# Altium integrated library Capacitor - Aluminium TH.IntLib: 4591 symbols (part 27 of 68)
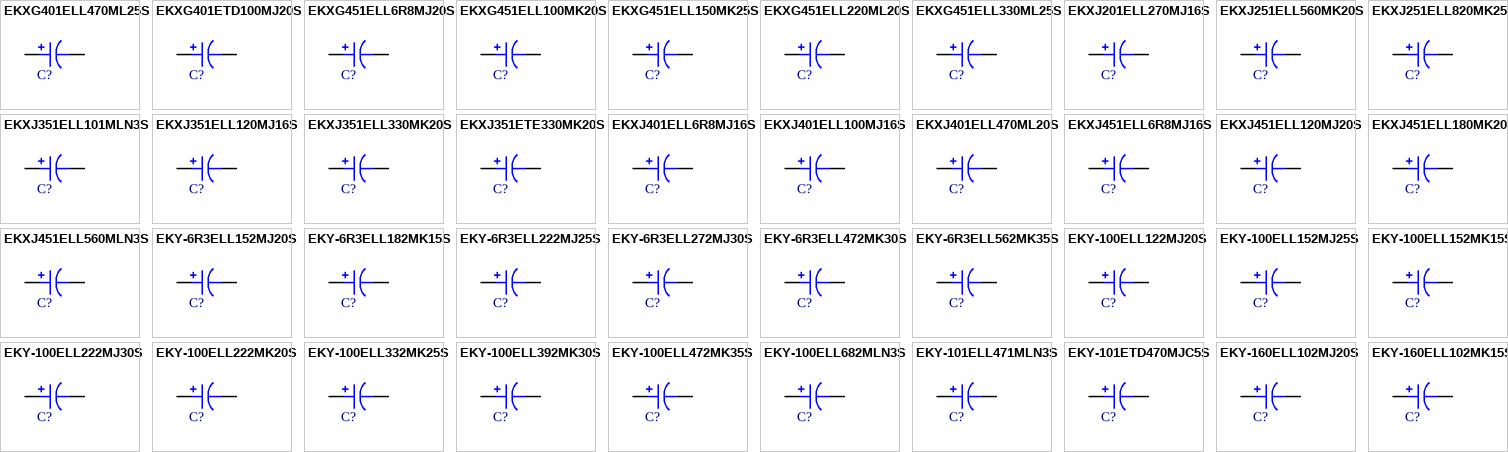
[diagram p140: symbols EKXG401ELL470ML25S to EKY-160ELL102MK15S]

## EKXG401ETD100MJ20S
designator C?, comment 10uF  (value not drawn)
CAP ALUM 10UF 20% 400V RADIAL; Part Number: EKXG401ETD100MJ20S; Manufacturer: United Chemi-Con; TemperatureRange: -40C ~ 105C; Type: Polar; Ripple Current: 140mA @ 120Hz; Value: 10uF; PartId: 25471; Supplier 1: Digi-Key; Supplier Part Number 1: 565-4257-3-ND; ComponentLink1Description: Datasheet; ComponentLink1URL: http://www.chemi-con.co.jp/cgi-bin/CAT_DB/SEARCH/cat_db_al.cgi?e=e&j=p&pdfname=kxg; ComponentLink2Description: Digi-Key Listing; ComponentLink2URL: https://www.digikey.com/product-detail/en/united-chemi-con/EKXG401ETD100MJ20S/565-4257-3-ND/4001214; Tolerance: 20%; Voltage: 400V; Price: 0.2907; Device Package: Radial, Can, 10mm
footprint CAP AL TH D10 L5 H22
pins: 1, 2

## EKXG451ELL6R8MJ20S
designator C?, comment 6.8uF  (value not drawn)
CAP ALUM 6.8UF 20% 450V RADIAL; Part Number: EKXG451ELL6R8MJ20S; Manufacturer: United Chemi-Con; TemperatureRange: -25C ~ 105C; Type: Polar; Ripple Current: 110mA @ 120Hz; Value: 6.8uF; PartId: 25679; Supplier 1: Digi-Key; Supplier Part Number 1: 565-1472-ND; ComponentLink1Description: Datasheet; ComponentLink1URL: http://www.chemi-con.co.jp/cgi-bin/CAT_DB/SEARCH/cat_db_al.cgi?e=e&j=p&pdfname=kxg; ComponentLink2Description: Digi-Key Listing; ComponentLink2URL: https://www.digikey.com/product-detail/en/united-chemi-con/EKXG451ELL6R8MJ20S/565-1472-ND/755988; Tolerance: 20%; Voltage: 450V; Price: 0.8; Device Package: Radial, Can, 10mm
footprint CAP AL TH D10 L5 H22
pins: 1, 2

## EKXG451ELL100MK20S
designator C?, comment 10uF  (value not drawn)
CAP ALUM 10UF 20% 450V RADIAL; Part Number: EKXG451ELL100MK20S; Manufacturer: United Chemi-Con; TemperatureRange: -25C ~ 105C; Type: Polar; Ripple Current: 180mA @ 120Hz; Value: 10uF; PartId: 22939; Supplier 1: Digi-Key; Supplier Part Number 1: 565-1473-ND; ComponentLink1Description: Datasheet; ComponentLink1URL: http://www.chemi-con.co.jp/cgi-bin/CAT_DB/SEARCH/cat_db_al.cgi?e=e&j=p&pdfname=kxg; ComponentLink2Description: Digi-Key Listing; ComponentLink2URL: https://www.digikey.com/product-detail/en/united-chemi-con/EKXG451ELL100MK20S/565-1473-ND/755989; Tolerance: 20%; Voltage: 450V; Price: 0; Device Package: Radial, Can, 12.5mm
footprint CAP AL TH D12.5 L5 H20
pins: 1, 2

## EKXG451ELL150MK25S
designator C?, comment 15uF  (value not drawn)
CAP ALUM 15UF 20% 450V RADIAL; Part Number: EKXG451ELL150MK25S; Manufacturer: United Chemi-Con; TemperatureRange: -25C ~ 105C; Type: Polar; Ripple Current: 240mA @ 120Hz; Value: 15uF; PartId: 23621; Supplier 1: Digi-Key; Supplier Part Number 1: 565-1474-ND; ComponentLink1Description: Datasheet; ComponentLink1URL: http://www.chemi-con.co.jp/cgi-bin/CAT_DB/SEARCH/cat_db_al.cgi?e=e&j=p&pdfname=kxg; ComponentLink2Description: Digi-Key Listing; ComponentLink2URL: https://www.digikey.com/product-detail/en/united-chemi-con/EKXG451ELL150MK25S/565-1474-ND/755990; Tolerance: 20%; Voltage: 450V; Price: 1.45; Device Package: Radial, Can, 12.5mm
footprint CAP AL TH D12.5 L5 H25
pins: 1, 2

## EKXG451ELL220ML20S
designator C?, comment 22uF  (value not drawn)
CAP ALUM 22UF 20% 450V RADIAL; Part Number: EKXG451ELL220ML20S; Manufacturer: United Chemi-Con; TemperatureRange: -25C ~ 105C; Type: Polar; Ripple Current: 290mA @ 120Hz; Value: 22uF; PartId: 26345; Supplier 1: Digi-Key; Supplier Part Number 1: 565-1475-ND; ComponentLink1Description: Datasheet; ComponentLink1URL: http://www.chemi-con.co.jp/cgi-bin/CAT_DB/SEARCH/cat_db_al.cgi?e=e&j=p&pdfname=kxg; ComponentLink2Description: Digi-Key Listing; ComponentLink2URL: https://www.digikey.com/product-detail/en/united-chemi-con/EKXG451ELL220ML20S/565-1475-ND/755991; Tolerance: 20%; Voltage: 450V; Price: 1.75; Device Package: Radial, Can, 16mm
footprint CAP AL TH D16 L7.5 H20
pins: 1, 2

## EKXG451ELL330ML25S
designator C?, comment 33uF  (value not drawn)
CAP ALUM 33UF 20% 450V RADIAL; Part Number: EKXG451ELL330ML25S; Manufacturer: United Chemi-Con; TemperatureRange: -25C ~ 105C; Type: Polar; Ripple Current: 390mA @ 120Hz; Value: 33uF; PartId: 26704; Supplier 1: Digi-Key; Supplier Part Number 1: 565-1476-ND; ComponentLink1Description: Datasheet; ComponentLink1URL: http://www.chemi-con.co.jp/cgi-bin/CAT_DB/SEARCH/cat_db_al.cgi?e=e&j=p&pdfname=kxg; ComponentLink2Description: Digi-Key Listing; ComponentLink2URL: https://www.digikey.com/product-detail/en/united-chemi-con/EKXG451ELL330ML25S/565-1476-ND/755992; Tolerance: 20%; Voltage: 450V; Price: 2.19; Device Package: Radial, Can, 16mm
footprint CAP AL TH D16 L7.5 H26.5
pins: 1, 2

## EKXJ201ELL270MJ16S
designator C?, comment 27uF  (value not drawn)
CAP ALUM 27UF 20% 200V RADIAL; Part Number: EKXJ201ELL270MJ16S; Manufacturer: United Chemi-Con; TemperatureRange: -40C ~ 105C; Type: Polar; Ripple Current: 200mA @ 120Hz; Value: 27uF; PartId: 25395; Supplier 1: Digi-Key; Supplier Part Number 1: 565-4217-ND; ComponentLink1Description: Datasheet; ComponentLink1URL: http://www.chemi-con.co.jp/cgi-bin/CAT_DB/SEARCH/cat_db_al.cgi?e=e&j=p&pdfname=kxj; ComponentLink2Description: Digi-Key Listing; ComponentLink2URL: https://www.digikey.com/product-detail/en/united-chemi-con/EKXJ201ELL270MJ16S/565-4217-ND/4001231; Tolerance: 20%; Voltage: 200V; Price: 0.79; Device Package: Radial, Can, 10mm
footprint CAP AL TH D10 L5 H17.5
pins: 1, 2

## EKXJ251ELL560MK20S
designator C?, comment 56uF  (value not drawn)
CAP ALUM 56UF 20% 250V RADIAL; Part Number: EKXJ251ELL560MK20S; Manufacturer: United Chemi-Con; TemperatureRange: -40C ~ 105C; Type: Polar; Ripple Current: 430mA @ 120Hz; Value: 56uF; PartId: 23042; Supplier 1: Digi-Key; Supplier Part Number 1: 565-3497-ND; ComponentLink1Description: Datasheet; ComponentLink1URL: http://www.chemi-con.co.jp/cgi-bin/CAT_DB/SEARCH/cat_db_al.cgi?e=e&j=p&pdfname=kxj; ComponentLink2Description: Digi-Key Listing; ComponentLink2URL: https://www.digikey.com/product-detail/en/united-chemi-con/EKXJ251ELL560MK20S/565-3497-ND/3529014; Tolerance: 20%; Voltage: 250V; Price: 0; Device Package: Radial, Can, 12.5mm
footprint CAP AL TH D12.5 L5 H21.5
pins: 1, 2

## EKXJ251ELL820MK25S
designator C?, comment 82uF  (value not drawn)
CAP ALUM 82UF 20% 250V RADIAL; Part Number: EKXJ251ELL820MK25S; Manufacturer: United Chemi-Con; TemperatureRange: -40C ~ 105C; Type: Polar; Ripple Current: 565mA @ 120Hz; Value: 82uF; PartId: 23735; Supplier 1: Digi-Key; Supplier Part Number 1: 565-3498-ND; ComponentLink1Description: Datasheet; ComponentLink1URL: http://www.chemi-con.co.jp/cgi-bin/CAT_DB/SEARCH/cat_db_al.cgi?e=e&j=p&pdfname=kxj; ComponentLink2Description: Digi-Key Listing; ComponentLink2URL: https://www.digikey.com/product-detail/en/united-chemi-con/EKXJ251ELL820MK25S/565-3498-ND/3529020; Tolerance: 20%; Voltage: 250V; Price: 1.5; Device Package: Radial, Can, 12.5mm
footprint CAP AL TH D12.5 L5 H26.5
pins: 1, 2

## EKXJ351ELL101MLN3S
designator C?, comment 100uF  (value not drawn)
CAP ALUM 100UF 20% 350V RADIAL; Part Number: EKXJ351ELL101MLN3S; Manufacturer: United Chemi-Con; TemperatureRange: -40C ~ 105C; Type: Polar; Ripple Current: 740mA @ 120Hz; Value: 100uF; PartId: 27262; Supplier 1: Digi-Key; Supplier Part Number 1: 565-3509-ND; ComponentLink1Description: Datasheet; ComponentLink1URL: http://www.chemi-con.co.jp/cgi-bin/CAT_DB/SEARCH/cat_db_al.cgi?e=e&j=p&pdfname=kxj; ComponentLink2Description: Digi-Key Listing; ComponentLink2URL: https://www.digikey.com/product-detail/en/united-chemi-con/EKXJ351ELL101MLN3S/565-3509-ND/3529022; Tolerance: 20%; Voltage: 350V; Price: 2.86; Device Package: Radial, Can, 16mm
footprint CAP AL TH D16 L7.5 H33.5
pins: 1, 2

## EKXJ351ELL120MJ16S
designator C?, comment 12uF  (value not drawn)
CAP ALUM 12UF 20% 350V RADIAL; Part Number: EKXJ351ELL120MJ16S; Manufacturer: United Chemi-Con; TemperatureRange: -40C ~ 105C; Type: Polar; Ripple Current: 135mA @ 120Hz; Value: 12uF; PartId: 25396; Supplier 1: Digi-Key; Supplier Part Number 1: 565-3506-ND; ComponentLink1Description: Datasheet; ComponentLink1URL: http://www.chemi-con.co.jp/cgi-bin/CAT_DB/SEARCH/cat_db_al.cgi?e=e&j=p&pdfname=kxj; ComponentLink2Description: Digi-Key Listing; ComponentLink2URL: https://www.digikey.com/product-detail/en/united-chemi-con/EKXJ351ELL120MJ16S/565-3506-ND/3529024; Tolerance: 20%; Voltage: 350V; Price: 0.79; Device Package: Radial, Can, 10mm
footprint CAP AL TH D10 L5 H17.5
pins: 1, 2

## EKXJ351ELL330MK20S
designator C?, comment 33uF  (value not drawn)
CAP ALUM 33UF 20% 350V RADIAL; Part Number: EKXJ351ELL330MK20S; Manufacturer: United Chemi-Con; TemperatureRange: -40C ~ 105C; Type: Polar; Ripple Current: 330mA @ 120Hz; Value: 33uF; PartId: 23049; Supplier 1: Digi-Key; Supplier Part Number 1: 565-4220-ND; ComponentLink1Description: Datasheet; ComponentLink1URL: http://www.chemi-con.co.jp/cgi-bin/CAT_DB/SEARCH/cat_db_al.cgi?e=e&j=p&pdfname=kxj; ComponentLink2Description: Digi-Key Listing; ComponentLink2URL: https://www.digikey.com/product-detail/en/united-chemi-con/EKXJ351ELL330MK20S/565-4220-ND/4001256; Tolerance: 20%; Voltage: 350V; Price: 0; Device Package: Radial, Can, 12.5mm
footprint CAP AL TH D12.5 L5 H21.5
pins: 1, 2

## EKXJ351ETE330MK20S
designator C?, comment 33uF  (value not drawn)
CAP ALUM 33UF 20% 350V RADIAL; Part Number: EKXJ351ETE330MK20S; Manufacturer: United Chemi-Con; TemperatureRange: -40C ~ 105C; Type: Polar; Ripple Current: 330mA @ 120Hz; Value: 33uF; PartId: 23058; Supplier 1: Digi-Key; Supplier Part Number 1: 565-3345-1-ND; ComponentLink1Description: Datasheet; ComponentLink1URL: http://www.chemi-con.co.jp/cgi-bin/CAT_DB/SEARCH/cat_db_al.cgi?e=e&j=p&pdfname=kxj; ComponentLink2Description: Digi-Key Listing; ComponentLink2URL: https://www.digikey.com/product-detail/en/united-chemi-con/EKXJ351ETE330MK20S/565-3345-1-ND/3504608; Tolerance: 20%; Voltage: 350V; Price: 0; Device Package: Radial, Can, 12.5mm
footprint CAP AL TH D12.5 L5 H21.5
pins: 1, 2

## EKXJ401ELL6R8MJ16S
designator C?, comment 6.8uF  (value not drawn)
CAP ALUM 6.8UF 20% 400V RADIAL; Part Number: EKXJ401ELL6R8MJ16S; Manufacturer: United Chemi-Con; TemperatureRange: -40C ~ 105C; Type: Polar; Value: 6.8uF; PartId: 25392; Supplier 1: Digi-Key; Supplier Part Number 1: 565-3517-ND; ComponentLink1Description: Datasheet; ComponentLink1URL: http://www.chemi-con.co.jp/cgi-bin/CAT_DB/SEARCH/cat_db_al.cgi?e=e&j=p&pdfname=kxj; ComponentLink2Description: Digi-Key Listing; ComponentLink2URL: https://www.digikey.com/product-detail/en/united-chemi-con/EKXJ401ELL6R8MJ16S/565-3517-ND/3529073; Tolerance: 20%; Voltage: 400V; Price: 0.78; Device Package: Radial, Can, 10mm
footprint CAP AL TH D10 L5 H17.5
pins: 1, 2

## EKXJ401ELL100MJ16S
designator C?, comment 10uF  (value not drawn)
CAP ALUM 10UF 20% 400V RADIAL; Part Number: EKXJ401ELL100MJ16S; Manufacturer: United Chemi-Con; TemperatureRange: -40C ~ 105C; Type: Polar; Ripple Current: 125mA @ 120Hz; Value: 10uF; PartId: 25407; Supplier 1: Digi-Key; Supplier Part Number 1: 565-4221-ND; ComponentLink1Description: Datasheet; ComponentLink1URL: http://www.chemi-con.co.jp/cgi-bin/CAT_DB/SEARCH/cat_db_al.cgi?e=e&j=p&pdfname=kxj; ComponentLink2Description: Digi-Key Listing; ComponentLink2URL: https://www.digikey.com/product-detail/en/united-chemi-con/EKXJ401ELL100MJ16S/565-4221-ND/4001263; Tolerance: 20%; Voltage: 400V; Price: 0.83; Device Package: Radial, Can, 10mm
footprint CAP AL TH D10 L5 H17.5
pins: 1, 2

## EKXJ401ELL470ML20S
designator C?, comment 47uF  (value not drawn)
CAP ALUM 47UF 20% 400V RADIAL; Part Number: EKXJ401ELL470ML20S; Manufacturer: United Chemi-Con; TemperatureRange: -40C ~ 105C; Type: Polar; Ripple Current: 435mA @ 120Hz; Value: 47uF; PartId: 26492; Supplier 1: Digi-Key; Supplier Part Number 1: 565-3521-ND; ComponentLink1Description: Datasheet; ComponentLink1URL: http://www.chemi-con.co.jp/cgi-bin/CAT_DB/SEARCH/cat_db_al.cgi?e=e&j=p&pdfname=kxj; ComponentLink2Description: Digi-Key Listing; ComponentLink2URL: https://www.digikey.com/product-detail/en/united-chemi-con/EKXJ401ELL470ML20S/565-3521-ND/3529067; Tolerance: 20%; Voltage: 400V; Price: 1.89; Device Package: Radial, Can, 16mm
footprint CAP AL TH D16 L7.5 H22
pins: 1, 2

## EKXJ451ELL6R8MJ16S
designator C?, comment 6.8uF  (value not drawn)
CAP ALUM 6.8UF 20% 450V RADIAL; Part Number: EKXJ451ELL6R8MJ16S; Manufacturer: United Chemi-Con; TemperatureRange: -25C ~ 105C; Type: Polar; Ripple Current: 105mA @ 120Hz; Value: 6.8uF; PartId: 25410; Supplier 1: Digi-Key; Supplier Part Number 1: 565-4229-ND; ComponentLink1Description: Datasheet; ComponentLink1URL: http://www.chemi-con.co.jp/cgi-bin/CAT_DB/SEARCH/cat_db_al.cgi?e=e&j=p&pdfname=kxj; ComponentLink2Description: Digi-Key Listing; ComponentLink2URL: https://www.digikey.com/product-detail/en/united-chemi-con/EKXJ451ELL6R8MJ16S/565-4229-ND/4001285; Tolerance: 20%; Voltage: 450V; Price: 0.83; Device Package: Radial, Can, 10mm
footprint CAP AL TH D10 L5 H17.5
pins: 1, 2

## EKXJ451ELL120MJ20S
designator C?, comment 12uF  (value not drawn)
CAP ALUM 12UF 20% 450V RADIAL; Part Number: EKXJ451ELL120MJ20S; Manufacturer: United Chemi-Con; TemperatureRange: -25C ~ 105C; Type: Polar; Ripple Current: 150mA @ 120Hz; Value: 12uF; PartId: 25704; Supplier 1: Digi-Key; Supplier Part Number 1: 565-4225-ND; ComponentLink1Description: Datasheet; ComponentLink1URL: http://www.chemi-con.co.jp/cgi-bin/CAT_DB/SEARCH/cat_db_al.cgi?e=e&j=p&pdfname=kxj; ComponentLink2Description: Digi-Key Listing; ComponentLink2URL: https://www.digikey.com/product-detail/en/united-chemi-con/EKXJ451ELL120MJ20S/565-4225-ND/3529113; Tolerance: 20%; Voltage: 450V; Price: 0.91; Device Package: Radial, Can, 10mm
footprint CAP AL TH D10 L5 H22
pins: 1, 2

## EKXJ451ELL180MK20S
designator C?, comment 18uF  (value not drawn)
CAP ALUM 18UF 20% 450V RADIAL; Part Number: EKXJ451ELL180MK20S; Manufacturer: United Chemi-Con; TemperatureRange: -25C ~ 105C; Type: Polar; Ripple Current: 255mA @ 120Hz; Value: 18uF; PartId: 23045; Supplier 1: Digi-Key; Supplier Part Number 1: 565-3528-ND; ComponentLink1Description: Datasheet; ComponentLink1URL: http://www.chemi-con.co.jp/cgi-bin/CAT_DB/SEARCH/cat_db_al.cgi?e=e&j=p&pdfname=kxj; ComponentLink2Description: Digi-Key Listing; ComponentLink2URL: https://www.digikey.com/product-detail/en/united-chemi-con/EKXJ451ELL180MK20S/565-3528-ND/3529116; Tolerance: 20%; Voltage: 450V; Price: 0; Device Package: Radial, Can, 12.5mm
footprint CAP AL TH D12.5 L5 H21.5
pins: 1, 2

## EKXJ451ELL560MLN3S
designator C?, comment 56uF  (value not drawn)
CAP ALUM 56UF 20% 450V RADIAL; Part Number: EKXJ451ELL560MLN3S; Manufacturer: United Chemi-Con; TemperatureRange: -25C ~ 105C; Type: Polar; Ripple Current: 585mA @ 120Hz; Value: 56uF; PartId: 27249; Supplier 1: Digi-Key; Supplier Part Number 1: 565-3538-ND; ComponentLink1Description: Datasheet; ComponentLink1URL: http://www.chemi-con.co.jp/cgi-bin/CAT_DB/SEARCH/cat_db_al.cgi?e=e&j=p&pdfname=kxj; ComponentLink2Description: Digi-Key Listing; ComponentLink2URL: https://www.digikey.com/product-detail/en/united-chemi-con/EKXJ451ELL560MLN3S/565-3538-ND/3529129; Tolerance: 20%; Voltage: 450V; Price: 2.65; Device Package: Radial, Can, 16mm
footprint CAP AL TH D16 L7.5 H33.5
pins: 1, 2

## EKY-6R3ELL152MJ20S
designator C?, comment 1500uF  (value not drawn)
CAP ALUM 1500UF 20% 6.3V RADIAL; Part Number: EKY-6R3ELL152MJ20S; Manufacturer: United Chemi-Con; TemperatureRange: -40C ~ 105C; Type: Polar; Ripple Current: 840mA @ 120Hz; Impedance: 46 mOhm; Value: 1500uF; PartId: 25515; Supplier 1: Digi-Key; Supplier Part Number 1: 565-1489-ND; ComponentLink1Description: Datasheet; ComponentLink1URL: http://www.chemi-con.co.jp/cgi-bin/CAT_DB/SEARCH/cat_db_al.cgi?e=e&j=p&pdfname=ky; ComponentLink2Description: Digi-Key Listing; ComponentLink2URL: https://www.digikey.com/product-detail/en/united-chemi-con/EKY-6R3ELL152MJ20S/565-1489-ND/756005; Tolerance: 20%; Voltage: 6.3V; Price: 0.57; Device Package: Radial, Can, 10mm
footprint CAP AL TH D10 L5 H22
pins: 1, 2

## EKY-6R3ELL182MK15S
designator C?, comment 1800uF  (value not drawn)
CAP ALUM 1800UF 20% 6.3V RADIAL; Part Number: EKY-6R3ELL182MK15S; Manufacturer: United Chemi-Con; TemperatureRange: -40C ~ 105C; Type: Polar; Ripple Current: 870mA @ 120Hz; Impedance: 49 mOhm; Value: 1800uF; PartId: 22711; Supplier 1: Digi-Key; Supplier Part Number 1: 565-1490-ND; ComponentLink1Description: Datasheet; ComponentLink1URL: http://www.chemi-con.co.jp/cgi-bin/CAT_DB/SEARCH/cat_db_al.cgi?e=e&j=p&pdfname=ky; ComponentLink2Description: Digi-Key Listing; ComponentLink2URL: https://www.digikey.com/product-detail/en/united-chemi-con/EKY-6R3ELL182MK15S/565-1490-ND/756006; Tolerance: 20%; Voltage: 6.3V; Price: 0; Device Package: Radial, Can, 12.5mm
footprint CAP AL TH D12.5 L5 H15
pins: 1, 2

## EKY-6R3ELL222MJ25S
designator C?, comment 2200uF  (value not drawn)
CAP ALUM 2200UF 20% 6.3V RADIAL; Part Number: EKY-6R3ELL222MJ25S; Manufacturer: United Chemi-Con; TemperatureRange: -40C ~ 105C; Type: Polar; Ripple Current: 1.2375A @ 120Hz; Impedance: 42 mOhm; Value: 2200uF; PartId: 26081; Supplier 1: Digi-Key; Supplier Part Number 1: 565-1491-ND; ComponentLink1Description: Datasheet; ComponentLink1URL: http://www.chemi-con.co.jp/cgi-bin/CAT_DB/SEARCH/cat_db_al.cgi?e=e&j=p&pdfname=ky; ComponentLink2Description: Digi-Key Listing; ComponentLink2URL: https://www.digikey.com/product-detail/en/united-chemi-con/EKY-6R3ELL222MJ25S/565-1491-ND/756007; Tolerance: 20%; Voltage: 6.3V; Price: 0.71; Device Package: Radial, Can, 10mm
footprint CAP AL TH D10 L5 H30
pins: 1, 2

## EKY-6R3ELL272MJ30S
designator C?, comment 2700uF  (value not drawn)
CAP ALUM 2700UF 20% 6.3V RADIAL; Part Number: EKY-6R3ELL272MJ30S; Manufacturer: United Chemi-Con; TemperatureRange: -40C ~ 105C; Type: Polar; Ripple Current: 1.4325A @ 120Hz; Impedance: 31 mOhm; Value: 2700uF; PartId: 26052; Supplier 1: Digi-Key; Supplier Part Number 1: 565-1492-ND; ComponentLink1Description: Datasheet; ComponentLink1URL: http://www.chemi-con.co.jp/cgi-bin/CAT_DB/SEARCH/cat_db_al.cgi?e=e&j=p&pdfname=ky; ComponentLink2Description: Digi-Key Listing; ComponentLink2URL: https://www.digikey.com/product-detail/en/united-chemi-con/EKY-6R3ELL272MJ30S/565-1492-ND/756008; Tolerance: 20%; Voltage: 6.3V; Price: 0.63; Device Package: Radial, Can, 10mm
footprint CAP AL TH D10 L5 H30
pins: 1, 2

## EKY-6R3ELL472MK30S
designator C?, comment 4700uF  (value not drawn)
CAP ALUM 4700UF 20% 6.3V RADIAL; Part Number: EKY-6R3ELL472MK30S; Manufacturer: United Chemi-Con; TemperatureRange: -40C ~ 105C; Type: Polar; Ripple Current: 2.2525A @ 120Hz; Impedance: 24 mOhm; Value: 4700uF; PartId: 24213; Supplier 1: Digi-Key; Supplier Part Number 1: 565-1495-ND; ComponentLink1Description: Datasheet; ComponentLink1URL: http://www.chemi-con.co.jp/cgi-bin/CAT_DB/SEARCH/cat_db_al.cgi?e=e&j=p&pdfname=ky; ComponentLink2Description: Digi-Key Listing; ComponentLink2URL: https://www.digikey.com/product-detail/en/united-chemi-con/EKY-6R3ELL472MK30S/565-1495-ND/756011; Tolerance: 20%; Voltage: 6.3V; Price: 0.95; Device Package: Radial, Can, 12.5mm
footprint CAP AL TH D12.5 L5 H35.5
pins: 1, 2

## EKY-6R3ELL562MK35S
designator C?, comment 5600uF  (value not drawn)
CAP ALUM 5600UF 20% 6.3V RADIAL; Part Number: EKY-6R3ELL562MK35S; Manufacturer: United Chemi-Con; TemperatureRange: -40C ~ 105C; Type: Polar; Ripple Current: 2.448A @ 120Hz; Impedance: 20 mOhm; Value: 5600uF; PartId: 24256; Supplier 1: Digi-Key; Supplier Part Number 1: 565-1496-ND; ComponentLink1Description: Datasheet; ComponentLink1URL: http://www.chemi-con.co.jp/cgi-bin/CAT_DB/SEARCH/cat_db_al.cgi?e=e&j=p&pdfname=ky; ComponentLink2Description: Digi-Key Listing; ComponentLink2URL: https://www.digikey.com/product-detail/en/united-chemi-con/EKY-6R3ELL562MK35S/565-1496-ND/756012; Tolerance: 20%; Voltage: 6.3V; Price: 1.03; Device Package: Radial, Can, 12.5mm
footprint CAP AL TH D12.5 L5 H35.5
pins: 1, 2

## EKY-100ELL122MJ20S
designator C?, comment 1200uF  (value not drawn)
CAP ALUM 1200UF 20% 10V RADIAL; Part Number: EKY-100ELL122MJ20S; Manufacturer: United Chemi-Con; TemperatureRange: -40C ~ 105C; Type: Polar; Ripple Current: 840mA @ 120Hz; Impedance: 46 mOhm; Value: 1200uF; PartId: 25514; Supplier 1: Digi-Key; Supplier Part Number 1: 565-1506-ND; ComponentLink1Description: Datasheet; ComponentLink1URL: http://www.chemi-con.co.jp/cgi-bin/CAT_DB/SEARCH/cat_db_al.cgi?e=e&j=p&pdfname=ky; ComponentLink2Description: Digi-Key Listing; ComponentLink2URL: https://www.digikey.com/product-detail/en/united-chemi-con/EKY-100ELL122MJ20S/565-1506-ND/756022; Tolerance: 20%; Voltage: 10V; Price: 0.56; Device Package: Radial, Can, 10mm
footprint CAP AL TH D10 L5 H22
pins: 1, 2

## EKY-100ELL152MJ25S
designator C?, comment 1500uF  (value not drawn)
CAP ALUM 1500UF 20% 10V RADIAL; Part Number: EKY-100ELL152MJ25S; Manufacturer: United Chemi-Con; TemperatureRange: -40C ~ 105C; Type: Polar; Ripple Current: 990mA @ 120Hz; Impedance: 42 mOhm; Value: 1500uF; PartId: 26070; Supplier 1: Digi-Key; Supplier Part Number 1: 565-1507-ND; ComponentLink1Description: Datasheet; ComponentLink1URL: http://www.chemi-con.co.jp/cgi-bin/CAT_DB/SEARCH/cat_db_al.cgi?e=e&j=p&pdfname=ky; ComponentLink2Description: Digi-Key Listing; ComponentLink2URL: https://www.digikey.com/product-detail/en/united-chemi-con/EKY-100ELL152MJ25S/565-1507-ND/756023; Tolerance: 20%; Voltage: 10V; Price: 0.7; Device Package: Radial, Can, 10mm
footprint CAP AL TH D10 L5 H30
pins: 1, 2

## EKY-100ELL152MK15S
designator C?, comment 1500uF  (value not drawn)
CAP ALUM 1500UF 20% 10V RADIAL; Part Number: EKY-100ELL152MK15S; Manufacturer: United Chemi-Con; TemperatureRange: -40C ~ 105C; Type: Polar; Ripple Current: 870mA @ 120Hz; Impedance: 49 mOhm; Value: 1500uF; PartId: 22713; Supplier 1: Digi-Key; Supplier Part Number 1: 565-1508-ND; ComponentLink1Description: Datasheet; ComponentLink1URL: http://www.chemi-con.co.jp/cgi-bin/CAT_DB/SEARCH/cat_db_al.cgi?e=e&j=p&pdfname=ky; ComponentLink2Description: Digi-Key Listing; ComponentLink2URL: https://www.digikey.com/product-detail/en/united-chemi-con/EKY-100ELL152MK15S/565-1508-ND/756024; Tolerance: 20%; Voltage: 10V; Price: 0; Device Package: Radial, Can, 12.5mm
footprint CAP AL TH D12.5 L5 H15
pins: 1, 2

## EKY-100ELL222MJ30S
designator C?, comment 2200uF  (value not drawn)
CAP ALUM 2200UF 20% 10V RADIAL; Part Number: EKY-100ELL222MJ30S; Manufacturer: United Chemi-Con; TemperatureRange: -40C ~ 105C; Type: Polar; Ripple Current: 1.4325A @ 120Hz; Impedance: 31 mOhm; Value: 2200uF; PartId: 26050; Supplier 1: Digi-Key; Supplier Part Number 1: 565-1509-ND; ComponentLink1Description: Datasheet; ComponentLink1URL: http://www.chemi-con.co.jp/cgi-bin/CAT_DB/SEARCH/cat_db_al.cgi?e=e&j=p&pdfname=ky; ComponentLink2Description: Digi-Key Listing; ComponentLink2URL: https://www.digikey.com/product-detail/en/united-chemi-con/EKY-100ELL222MJ30S/565-1509-ND/756025; Tolerance: 20%; Voltage: 10V; Price: 0.63; Device Package: Radial, Can, 10mm
footprint CAP AL TH D10 L5 H30
pins: 1, 2

## EKY-100ELL222MK20S
designator C?, comment 2200uF  (value not drawn)
CAP ALUM 2200UF 20% 10V RADIAL; Part Number: EKY-100ELL222MK20S; Manufacturer: United Chemi-Con; TemperatureRange: -40C ~ 105C; Type: Polar; Ripple Current: 1.425A @ 120Hz; Impedance: 35 mOhm; Value: 2200uF; PartId: 22884; Supplier 1: Digi-Key; Supplier Part Number 1: 565-1510-ND; ComponentLink1Description: Datasheet; ComponentLink1URL: http://www.chemi-con.co.jp/cgi-bin/CAT_DB/SEARCH/cat_db_al.cgi?e=e&j=p&pdfname=ky; ComponentLink2Description: Digi-Key Listing; ComponentLink2URL: https://www.digikey.com/product-detail/en/united-chemi-con/EKY-100ELL222MK20S/565-1510-ND/756026; Tolerance: 20%; Voltage: 10V; Price: 0; Device Package: Radial, Can, 12.5mm
footprint CAP AL TH D12.5 L5 H20
pins: 1, 2

## EKY-100ELL332MK25S
designator C?, comment 3300uF  (value not drawn)
CAP ALUM 3300UF 20% 10V RADIAL; Part Number: EKY-100ELL332MK25S; Manufacturer: United Chemi-Con; TemperatureRange: -40C ~ 105C; Type: Polar; Ripple Current: 1.6725A @ 120Hz; Impedance: 27 mOhm; Value: 3300uF; PartId: 23558; Supplier 1: Digi-Key; Supplier Part Number 1: 565-1512-ND; ComponentLink1Description: Datasheet; ComponentLink1URL: http://www.chemi-con.co.jp/cgi-bin/CAT_DB/SEARCH/cat_db_al.cgi?e=e&j=p&pdfname=ky; ComponentLink2Description: Digi-Key Listing; ComponentLink2URL: https://www.digikey.com/product-detail/en/united-chemi-con/EKY-100ELL332MK25S/565-1512-ND/756028; Tolerance: 20%; Voltage: 10V; Price: 0.87; Device Package: Radial, Can, 12.5mm
footprint CAP AL TH D12.5 L5 H25
pins: 1, 2

## EKY-100ELL392MK30S
designator C?, comment 3900uF  (value not drawn)
CAP ALUM 3900UF 20% 10V RADIAL; Part Number: EKY-100ELL392MK30S; Manufacturer: United Chemi-Con; TemperatureRange: -40C ~ 105C; Type: Polar; Ripple Current: 1.9875A @ 120Hz; Impedance: 24 mOhm; Value: 3900uF; PartId: 24208; Supplier 1: Digi-Key; Supplier Part Number 1: 565-1513-ND; ComponentLink1Description: Datasheet; ComponentLink1URL: http://www.chemi-con.co.jp/cgi-bin/CAT_DB/SEARCH/cat_db_al.cgi?e=e&j=p&pdfname=ky; ComponentLink2Description: Digi-Key Listing; ComponentLink2URL: https://www.digikey.com/product-detail/en/united-chemi-con/EKY-100ELL392MK30S/565-1513-ND/756029; Tolerance: 20%; Voltage: 10V; Price: 0.92; Device Package: Radial, Can, 12.5mm
footprint CAP AL TH D12.5 L5 H35.5
pins: 1, 2

## EKY-100ELL472MK35S
designator C?, comment 4700uF  (value not drawn)
CAP ALUM 4700UF 20% 10V RADIAL; Part Number: EKY-100ELL472MK35S; Manufacturer: United Chemi-Con; TemperatureRange: -40C ~ 105C; Type: Polar; Ripple Current: 2.448A @ 120Hz; Impedance: 20 mOhm; Value: 4700uF; PartId: 24261; Supplier 1: Digi-Key; Supplier Part Number 1: 565-1515-ND; ComponentLink1Description: Datasheet; ComponentLink1URL: http://www.chemi-con.co.jp/cgi-bin/CAT_DB/SEARCH/cat_db_al.cgi?e=e&j=p&pdfname=ky; ComponentLink2Description: Digi-Key Listing; ComponentLink2URL: https://www.digikey.com/product-detail/en/united-chemi-con/EKY-100ELL472MK35S/565-1515-ND/756031; Tolerance: 20%; Voltage: 10V; Price: 1.04; Device Package: Radial, Can, 12.5mm
footprint CAP AL TH D12.5 L5 H35.5
pins: 1, 2

## EKY-100ELL682MLN3S
designator C?, comment 6800uF  (value not drawn)
CAP ALUM 6800UF 20% 10V RADIAL; Part Number: EKY-100ELL682MLN3S; Manufacturer: United Chemi-Con; TemperatureRange: -40C ~ 105C; Type: Polar; Ripple Current: 2.9325A @ 120Hz; Impedance: 17 mOhm; Value: 6800uF; PartId: 27008; Supplier 1: Digi-Key; Supplier Part Number 1: 565-1518-ND; ComponentLink1Description: Datasheet; ComponentLink1URL: http://www.chemi-con.co.jp/cgi-bin/CAT_DB/SEARCH/cat_db_al.cgi?e=e&j=p&pdfname=ky; ComponentLink2Description: Digi-Key Listing; ComponentLink2URL: https://www.digikey.com/product-detail/en/united-chemi-con/EKY-100ELL682MLN3S/565-1518-ND/756034; Tolerance: 20%; Voltage: 10V; Price: 1.4; Device Package: Radial, Can, 16mm
footprint CAP AL TH D16 L7.5 H33.5
pins: 1, 2

## EKY-101ELL471MLN3S
designator C?, comment 470uF  (value not drawn)
CAP ALUM 470UF 20% 100V RADIAL; Part Number: EKY-101ELL471MLN3S; Manufacturer: United Chemi-Con; TemperatureRange: -40C ~ 105C; Type: Polar; Ripple Current: 925mA @ 120Hz; Impedance: 32 mOhm; Value: 470uF; PartId: 27072; Supplier 1: Digi-Key; Supplier Part Number 1: 565-4231-ND; ComponentLink1Description: Datasheet; ComponentLink1URL: http://www.chemi-con.co.jp/cgi-bin/CAT_DB/SEARCH/cat_db_al.cgi?e=e&j=p&pdfname=ky; ComponentLink2Description: Digi-Key Listing; ComponentLink2URL: https://www.digikey.com/product-detail/en/united-chemi-con/EKY-101ELL471MLN3S/565-4231-ND/4001310; Tolerance: 20%; Voltage: 100V; Price: 1.64; Device Package: Radial, Can, 16mm
footprint CAP AL TH D16 L7.5 H33.5
pins: 1, 2

## EKY-101ETD470MJC5S
designator C?, comment 47uF  (value not drawn)
CAP ALUM 47UF 20% 100V RADIAL; Part Number: EKY-101ETD470MJC5S; Manufacturer: United Chemi-Con; TemperatureRange: -40C ~ 105C; Type: Polar; Ripple Current: 192mA @ 120Hz; Impedance: 170 mOhm; Value: 47uF; PartId: 24543; Supplier 1: Digi-Key; Supplier Part Number 1: 565-4258-3-ND; ComponentLink1Description: Datasheet; ComponentLink1URL: http://www.chemi-con.co.jp/cgi-bin/CAT_DB/SEARCH/cat_db_al.cgi?e=e&j=p&pdfname=ky; ComponentLink2Description: Digi-Key Listing; ComponentLink2URL: https://www.digikey.com/product-detail/en/united-chemi-con/EKY-101ETD470MJC5S/565-4258-3-ND/4001321; Tolerance: 20%; Voltage: 100V; Price: 0.1476; Device Package: Radial, Can, 10mm
footprint CAP AL TH D10 L5 H14.5
pins: 1, 2

## EKY-160ELL102MJ20S
designator C?, comment 1000uF  (value not drawn)
CAP ALUM 1000UF 20% 16V RADIAL; Part Number: EKY-160ELL102MJ20S; Manufacturer: United Chemi-Con; TemperatureRange: -40C ~ 105C; Type: Polar; Ripple Current: 840mA @ 120Hz; Impedance: 46 mOhm; Value: 1000uF; PartId: 25519; Supplier 1: Digi-Key; Supplier Part Number 1: 565-1527-ND; ComponentLink1Description: Datasheet; ComponentLink1URL: http://www.chemi-con.co.jp/cgi-bin/CAT_DB/SEARCH/cat_db_al.cgi?e=e&j=p&pdfname=ky; ComponentLink2Description: Digi-Key Listing; ComponentLink2URL: https://www.digikey.com/product-detail/en/united-chemi-con/EKY-160ELL102MJ20S/565-1527-ND/756043; Tolerance: 20%; Voltage: 16V; Price: 0.58; Device Package: Radial, Can, 10mm
footprint CAP AL TH D10 L5 H22
pins: 1, 2

## EKY-160ELL102MK15S
designator C?, comment 1000uF  (value not drawn)
CAP ALUM 1000UF 20% 16V RADIAL; Part Number: EKY-160ELL102MK15S; Manufacturer: United Chemi-Con; TemperatureRange: -40C ~ 105C; Type: Polar; Ripple Current: 870mA @ 120Hz; Impedance: 49 mOhm; Value: 1000uF; PartId: 22737; Supplier 1: Digi-Key; Supplier Part Number 1: 565-1528-ND; ComponentLink1Description: Datasheet; ComponentLink1URL: http://www.chemi-con.co.jp/cgi-bin/CAT_DB/SEARCH/cat_db_al.cgi?e=e&j=p&pdfname=ky; ComponentLink2Description: Digi-Key Listing; ComponentLink2URL: https://www.digikey.com/product-detail/en/united-chemi-con/EKY-160ELL102MK15S/565-1528-ND/756044; Tolerance: 20%; Voltage: 16V; Price: 0; Device Package: Radial, Can, 12.5mm
footprint CAP AL TH D12.5 L5 H16.5
pins: 1, 2

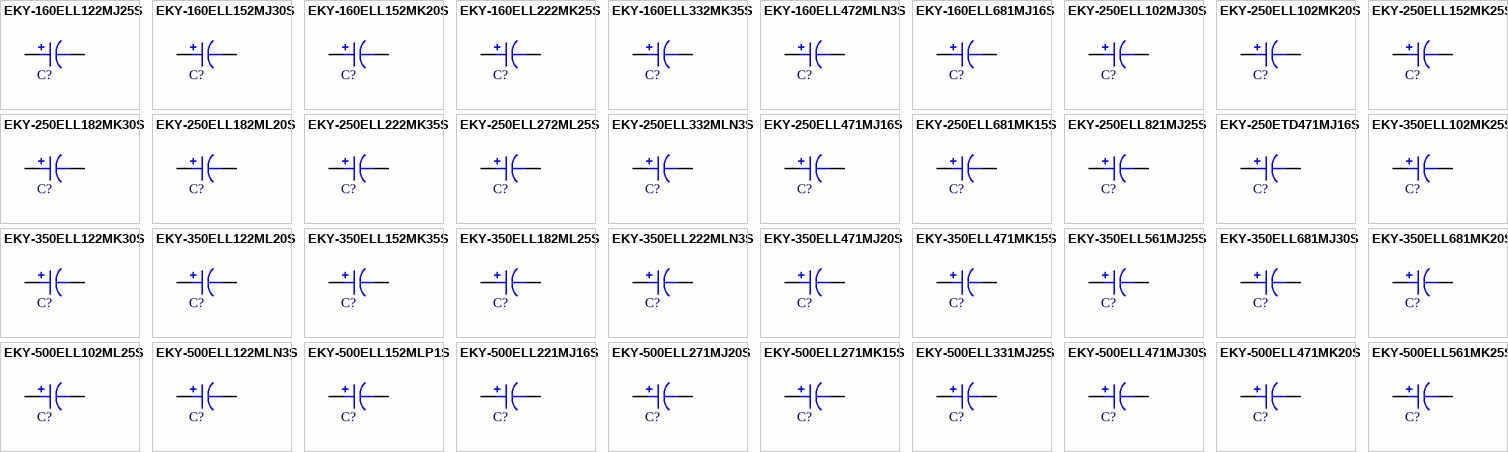
[diagram p44: symbols EKY-160ELL122MJ25S to EKY-500ELL561MK25S]

## EKY-160ELL122MJ25S
designator C?, comment 1200uF  (value not drawn)
CAP ALUM 1200UF 20% 16V RADIAL; Part Number: EKY-160ELL122MJ25S; Manufacturer: United Chemi-Con; TemperatureRange: -40C ~ 105C; Type: Polar; Ripple Current: 990mA @ 120Hz; Impedance: 42 mOhm; Value: 1200uF; PartId: 26079; Supplier 1: Digi-Key; Supplier Part Number 1: 565-1529-ND; ComponentLink1Description: Datasheet; ComponentLink1URL: http://www.chemi-con.co.jp/cgi-bin/CAT_DB/SEARCH/cat_db_al.cgi?e=e&j=p&pdfname=ky; ComponentLink2Description: Digi-Key Listing; ComponentLink2URL: https://www.digikey.com/product-detail/en/united-chemi-con/EKY-160ELL122MJ25S/565-1529-ND/756045; Tolerance: 20%; Voltage: 16V; Price: 0.71; Device Package: Radial, Can, 10mm
footprint CAP AL TH D10 L5 H30
pins: 1, 2

## EKY-160ELL152MJ30S
designator C?, comment 1500uF  (value not drawn)
CAP ALUM 1500UF 20% 16V RADIAL; Part Number: EKY-160ELL152MJ30S; Manufacturer: United Chemi-Con; TemperatureRange: -40C ~ 105C; Type: Polar; Ripple Current: 1.146A @ 120Hz; Impedance: 31 mOhm; Value: 1500uF; PartId: 26053; Supplier 1: Digi-Key; Supplier Part Number 1: 565-1530-ND; ComponentLink1Description: Datasheet; ComponentLink1URL: http://www.chemi-con.co.jp/cgi-bin/CAT_DB/SEARCH/cat_db_al.cgi?e=e&j=p&pdfname=ky; ComponentLink2Description: Digi-Key Listing; ComponentLink2URL: https://www.digikey.com/product-detail/en/united-chemi-con/EKY-160ELL152MJ30S/565-1530-ND/756046; Tolerance: 20%; Voltage: 16V; Price: 0.64; Device Package: Radial, Can, 10mm
footprint CAP AL TH D10 L5 H30
pins: 1, 2

## EKY-160ELL152MK20S
designator C?, comment 1500uF  (value not drawn)
CAP ALUM 1500UF 20% 16V RADIAL; Part Number: EKY-160ELL152MK20S; Manufacturer: United Chemi-Con; TemperatureRange: -40C ~ 105C; Type: Polar; Ripple Current: 1.14A @ 120Hz; Impedance: 35 mOhm; Value: 1500uF; PartId: 22896; Supplier 1: Digi-Key; Supplier Part Number 1: 565-1531-ND; ComponentLink1Description: Datasheet; ComponentLink1URL: http://www.chemi-con.co.jp/cgi-bin/CAT_DB/SEARCH/cat_db_al.cgi?e=e&j=p&pdfname=ky; ComponentLink2Description: Digi-Key Listing; ComponentLink2URL: https://www.digikey.com/product-detail/en/united-chemi-con/EKY-160ELL152MK20S/565-1531-ND/756047; Tolerance: 20%; Voltage: 16V; Price: 0; Device Package: Radial, Can, 12.5mm
footprint CAP AL TH D12.5 L5 H20
pins: 1, 2

## EKY-160ELL222MK25S
designator C?, comment 2200uF  (value not drawn)
CAP ALUM 2200UF 20% 16V RADIAL; Part Number: EKY-160ELL222MK25S; Manufacturer: United Chemi-Con; TemperatureRange: -40C ~ 105C; Type: Polar; Ripple Current: 1.6725A @ 120Hz; Impedance: 27 mOhm; Value: 2200uF; PartId: 23549; Supplier 1: Digi-Key; Supplier Part Number 1: 565-1532-ND; ComponentLink1Description: Datasheet; ComponentLink1URL: http://www.chemi-con.co.jp/cgi-bin/CAT_DB/SEARCH/cat_db_al.cgi?e=e&j=p&pdfname=ky; ComponentLink2Description: Digi-Key Listing; ComponentLink2URL: https://www.digikey.com/product-detail/en/united-chemi-con/EKY-160ELL222MK25S/565-1532-ND/756048; Tolerance: 20%; Voltage: 16V; Price: 0.85; Device Package: Radial, Can, 12.5mm
footprint CAP AL TH D12.5 L5 H25
pins: 1, 2

## EKY-160ELL332MK35S
designator C?, comment 3300uF  (value not drawn)
CAP ALUM 3300UF 20% 16V RADIAL; Part Number: EKY-160ELL332MK35S; Manufacturer: United Chemi-Con; TemperatureRange: -40C ~ 105C; Type: Polar; Ripple Current: 2.16A @ 120Hz; Impedance: 20 mOhm; Value: 3300uF; PartId: 24262; Supplier 1: Digi-Key; Supplier Part Number 1: 565-1535-ND; ComponentLink1Description: Datasheet; ComponentLink1URL: http://www.chemi-con.co.jp/cgi-bin/CAT_DB/SEARCH/cat_db_al.cgi?e=e&j=p&pdfname=ky; ComponentLink2Description: Digi-Key Listing; ComponentLink2URL: https://www.digikey.com/product-detail/en/united-chemi-con/EKY-160ELL332MK35S/565-1535-ND/756051; Tolerance: 20%; Voltage: 16V; Price: 1.04; Device Package: Radial, Can, 12.5mm
footprint CAP AL TH D12.5 L5 H35.5
pins: 1, 2

## EKY-160ELL472MLN3S
designator C?, comment 4700uF  (value not drawn)
CAP ALUM 4700UF 20% 16V RADIAL; Part Number: EKY-160ELL472MLN3S; Manufacturer: United Chemi-Con; TemperatureRange: -40C ~ 105C; Type: Polar; Ripple Current: 2.9325A @ 120Hz; Impedance: 17 mOhm; Value: 4700uF; PartId: 27011; Supplier 1: Digi-Key; Supplier Part Number 1: 565-1538-ND; ComponentLink1Description: Datasheet; ComponentLink1URL: http://www.chemi-con.co.jp/cgi-bin/CAT_DB/SEARCH/cat_db_al.cgi?e=e&j=p&pdfname=ky; ComponentLink2Description: Digi-Key Listing; ComponentLink2URL: https://www.digikey.com/product-detail/en/united-chemi-con/EKY-160ELL472MLN3S/565-1538-ND/756054; Tolerance: 20%; Voltage: 16V; Price: 1.41; Device Package: Radial, Can, 16mm
footprint CAP AL TH D16 L7.5 H33.5
pins: 1, 2

## EKY-160ELL681MJ16S
designator C?, comment 680uF  (value not drawn)
CAP ALUM 680UF 20% 16V RADIAL; Part Number: EKY-160ELL681MJ16S; Manufacturer: United Chemi-Con; TemperatureRange: -40C ~ 105C; Type: Polar; Ripple Current: 726mA @ 120Hz; Impedance: 60 mOhm; Value: 680uF; PartId: 25205; Supplier 1: Digi-Key; Supplier Part Number 1: 565-1525-ND; ComponentLink1Description: Datasheet; ComponentLink1URL: http://www.chemi-con.co.jp/cgi-bin/CAT_DB/SEARCH/cat_db_al.cgi?e=e&j=p&pdfname=ky; ComponentLink2Description: Digi-Key Listing; ComponentLink2URL: https://www.digikey.com/product-detail/en/united-chemi-con/EKY-160ELL681MJ16S/565-1525-ND/756041; Tolerance: 20%; Voltage: 16V; Price: 0.51; Device Package: Radial, Can, 10mm
footprint CAP AL TH D10 L5 H17.5
pins: 1, 2

## EKY-250ELL102MJ30S
designator C?, comment 1000uF  (value not drawn)
CAP ALUM 1000UF 20% 25V RADIAL; Part Number: EKY-250ELL102MJ30S; Manufacturer: United Chemi-Con; TemperatureRange: -40C ~ 105C; Type: Polar; Ripple Current: 1.146A @ 120Hz; Impedance: 31 mOhm; Value: 1000uF; PartId: 26051; Supplier 1: Digi-Key; Supplier Part Number 1: 565-1554-ND; ComponentLink1Description: Datasheet; ComponentLink1URL: http://www.chemi-con.co.jp/cgi-bin/CAT_DB/SEARCH/cat_db_al.cgi?e=e&j=p&pdfname=ky; ComponentLink2Description: Digi-Key Listing; ComponentLink2URL: https://www.digikey.com/product-detail/en/united-chemi-con/EKY-250ELL102MJ30S/565-1554-ND/756070; Tolerance: 20%; Voltage: 25V; Price: 0.63; Device Package: Radial, Can, 10mm
footprint CAP AL TH D10 L5 H30
pins: 1, 2

## EKY-250ELL102MK20S
designator C?, comment 1000uF  (value not drawn)
CAP ALUM 1000UF 20% 25V RADIAL; Part Number: EKY-250ELL102MK20S; Manufacturer: United Chemi-Con; TemperatureRange: -40C ~ 105C; Type: Polar; Ripple Current: 1.14A @ 120Hz; Impedance: 35 mOhm; Value: 1000uF; PartId: 22895; Supplier 1: Digi-Key; Supplier Part Number 1: 565-1555-ND; ComponentLink1Description: Datasheet; ComponentLink1URL: http://www.chemi-con.co.jp/cgi-bin/CAT_DB/SEARCH/cat_db_al.cgi?e=e&j=p&pdfname=ky; ComponentLink2Description: Digi-Key Listing; ComponentLink2URL: https://www.digikey.com/product-detail/en/united-chemi-con/EKY-250ELL102MK20S/565-1555-ND/756071; Tolerance: 20%; Voltage: 25V; Price: 0; Device Package: Radial, Can, 12.5mm
footprint CAP AL TH D12.5 L5 H20
pins: 1, 2

## EKY-250ELL152MK25S
designator C?, comment 1500uF  (value not drawn)
CAP ALUM 1500UF 20% 25V RADIAL; Part Number: EKY-250ELL152MK25S; Manufacturer: United Chemi-Con; TemperatureRange: -40C ~ 105C; Type: Polar; Ripple Current: 1.338A @ 120Hz; Impedance: 27 mOhm; Value: 1500uF; PartId: 23551; Supplier 1: Digi-Key; Supplier Part Number 1: 565-1557-ND; ComponentLink1Description: Datasheet; ComponentLink1URL: http://www.chemi-con.co.jp/cgi-bin/CAT_DB/SEARCH/cat_db_al.cgi?e=e&j=p&pdfname=ky; ComponentLink2Description: Digi-Key Listing; ComponentLink2URL: https://www.digikey.com/product-detail/en/united-chemi-con/EKY-250ELL152MK25S/565-1557-ND/756073; Tolerance: 20%; Voltage: 25V; Price: 0.85; Device Package: Radial, Can, 12.5mm
footprint CAP AL TH D12.5 L5 H25
pins: 1, 2

## EKY-250ELL182MK30S
designator C?, comment 1800uF  (value not drawn)
CAP ALUM 1800UF 20% 25V RADIAL; Part Number: EKY-250ELL182MK30S; Manufacturer: United Chemi-Con; TemperatureRange: -40C ~ 105C; Type: Polar; Ripple Current: 1.59A @ 120Hz; Impedance: 24 mOhm; Value: 1800uF; PartId: 24207; Supplier 1: Digi-Key; Supplier Part Number 1: 565-1558-ND; ComponentLink1Description: Datasheet; ComponentLink1URL: http://www.chemi-con.co.jp/cgi-bin/CAT_DB/SEARCH/cat_db_al.cgi?e=e&j=p&pdfname=ky; ComponentLink2Description: Digi-Key Listing; ComponentLink2URL: https://www.digikey.com/product-detail/en/united-chemi-con/EKY-250ELL182MK30S/565-1558-ND/756074; Tolerance: 20%; Voltage: 25V; Price: 0.92; Device Package: Radial, Can, 12.5mm
footprint CAP AL TH D12.5 L5 H35.5
pins: 1, 2

## EKY-250ELL182ML20S
designator C?, comment 1800uF  (value not drawn)
CAP ALUM 1800UF 20% 25V RADIAL; Part Number: EKY-250ELL182ML20S; Manufacturer: United Chemi-Con; TemperatureRange: -40C ~ 105C; Type: Polar; Ripple Current: 1.518A @ 120Hz; Impedance: 27 mOhm; Value: 1800uF; PartId: 26283; Supplier 1: Digi-Key; Supplier Part Number 1: 565-1559-ND; ComponentLink1Description: Datasheet; ComponentLink1URL: http://www.chemi-con.co.jp/cgi-bin/CAT_DB/SEARCH/cat_db_al.cgi?e=e&j=p&pdfname=ky; ComponentLink2Description: Digi-Key Listing; ComponentLink2URL: https://www.digikey.com/product-detail/en/united-chemi-con/EKY-250ELL182ML20S/565-1559-ND/756075; Tolerance: 20%; Voltage: 25V; Price: 1; Device Package: Radial, Can, 16mm
footprint CAP AL TH D16 L7.5 H20
pins: 1, 2

## EKY-250ELL222MK35S
designator C?, comment 2200uF  (value not drawn)
CAP ALUM 2200UF 20% 25V RADIAL; Part Number: EKY-250ELL222MK35S; Manufacturer: United Chemi-Con; TemperatureRange: -40C ~ 105C; Type: Polar; Ripple Current: 2.16A @ 120Hz; Impedance: 20 mOhm; Value: 2200uF; PartId: 24268; Supplier 1: Digi-Key; Supplier Part Number 1: 565-1560-ND; ComponentLink1Description: Datasheet; ComponentLink1URL: http://www.chemi-con.co.jp/cgi-bin/CAT_DB/SEARCH/cat_db_al.cgi?e=e&j=p&pdfname=ky; ComponentLink2Description: Digi-Key Listing; ComponentLink2URL: https://www.digikey.com/product-detail/en/united-chemi-con/EKY-250ELL222MK35S/565-1560-ND/756076; Tolerance: 20%; Voltage: 25V; Price: 1.06; Device Package: Radial, Can, 12.5mm
footprint CAP AL TH D12.5 L5 H35.5
pins: 1, 2

## EKY-250ELL272ML25S
designator C?, comment 2700uF  (value not drawn)
CAP ALUM 2700UF 20% 25V RADIAL; Part Number: EKY-250ELL272ML25S; Manufacturer: United Chemi-Con; TemperatureRange: -40C ~ 105C; Type: Polar; Ripple Current: 2.1975A @ 120Hz; Impedance: 21 mOhm; Value: 2700uF; PartId: 26572; Supplier 1: Digi-Key; Supplier Part Number 1: 565-1563-ND; ComponentLink1Description: Datasheet; ComponentLink1URL: http://www.chemi-con.co.jp/cgi-bin/CAT_DB/SEARCH/cat_db_al.cgi?e=e&j=p&pdfname=ky; ComponentLink2Description: Digi-Key Listing; ComponentLink2URL: https://www.digikey.com/product-detail/en/united-chemi-con/EKY-250ELL272ML25S/565-1563-ND/756079; Tolerance: 20%; Voltage: 25V; Price: 1.19; Device Package: Radial, Can, 16mm
footprint CAP AL TH D16 L7.5 H26.5
pins: 1, 2

## EKY-250ELL332MLN3S
designator C?, comment 3300uF  (value not drawn)
CAP ALUM 3300UF 20% 25V RADIAL; Part Number: EKY-250ELL332MLN3S; Manufacturer: United Chemi-Con; TemperatureRange: -40C ~ 105C; Type: Polar; Ripple Current: 2.5875A @ 120Hz; Impedance: 17 mOhm; Value: 3300uF; PartId: 27021; Supplier 1: Digi-Key; Supplier Part Number 1: 565-1564-ND; ComponentLink1Description: Datasheet; ComponentLink1URL: http://www.chemi-con.co.jp/cgi-bin/CAT_DB/SEARCH/cat_db_al.cgi?e=e&j=p&pdfname=ky; ComponentLink2Description: Digi-Key Listing; ComponentLink2URL: https://www.digikey.com/product-detail/en/united-chemi-con/EKY-250ELL332MLN3S/565-1564-ND/756080; Tolerance: 20%; Voltage: 25V; Price: 1.47; Device Package: Radial, Can, 16mm
footprint CAP AL TH D16 L7.5 H33.5
pins: 1, 2

## EKY-250ELL471MJ16S
designator C?, comment 470uF  (value not drawn)
CAP ALUM 470UF 20% 25V RADIAL; Part Number: EKY-250ELL471MJ16S; Manufacturer: United Chemi-Con; TemperatureRange: -40C ~ 105C; Type: Polar; Ripple Current: 605mA @ 120Hz; Impedance: 60 mOhm; Value: 470uF; PartId: 25207; Supplier 1: Digi-Key; Supplier Part Number 1: 565-1549-ND; ComponentLink1Description: Datasheet; ComponentLink1URL: http://www.chemi-con.co.jp/cgi-bin/CAT_DB/SEARCH/cat_db_al.cgi?e=e&j=p&pdfname=ky; ComponentLink2Description: Digi-Key Listing; ComponentLink2URL: https://www.digikey.com/product-detail/en/united-chemi-con/EKY-250ELL471MJ16S/565-1549-ND/756065; Tolerance: 20%; Voltage: 25V; Price: 0.51; Device Package: Radial, Can, 10mm
footprint CAP AL TH D10 L5 H17.5
pins: 1, 2

## EKY-250ELL681MK15S
designator C?, comment 680uF  (value not drawn)
CAP ALUM 680UF 20% 25V RADIAL; Part Number: EKY-250ELL681MK15S; Manufacturer: United Chemi-Con; TemperatureRange: -40C ~ 105C; Type: Polar; Ripple Current: 870mA @ 120Hz; Impedance: 49 mOhm; Value: 680uF; PartId: 22712; Supplier 1: Digi-Key; Supplier Part Number 1: 565-1552-ND; ComponentLink1Description: Datasheet; ComponentLink1URL: http://www.chemi-con.co.jp/cgi-bin/CAT_DB/SEARCH/cat_db_al.cgi?e=e&j=p&pdfname=ky; ComponentLink2Description: Digi-Key Listing; ComponentLink2URL: https://www.digikey.com/product-detail/en/united-chemi-con/EKY-250ELL681MK15S/565-1552-ND/756068; Tolerance: 20%; Voltage: 25V; Price: 0; Device Package: Radial, Can, 12.5mm
footprint CAP AL TH D12.5 L5 H15
pins: 1, 2

## EKY-250ELL821MJ25S
designator C?, comment 820uF  (value not drawn)
CAP ALUM 820UF 20% 25V RADIAL; Part Number: EKY-250ELL821MJ25S; Manufacturer: United Chemi-Con; TemperatureRange: -40C ~ 105C; Type: Polar; Ripple Current: 990mA @ 120Hz; Impedance: 42 mOhm; Value: 820uF; PartId: 26077; Supplier 1: Digi-Key; Supplier Part Number 1: 565-1553-ND; ComponentLink1Description: Datasheet; ComponentLink1URL: http://www.chemi-con.co.jp/cgi-bin/CAT_DB/SEARCH/cat_db_al.cgi?e=e&j=p&pdfname=ky; ComponentLink2Description: Digi-Key Listing; ComponentLink2URL: https://www.digikey.com/product-detail/en/united-chemi-con/EKY-250ELL821MJ25S/565-1553-ND/756069; Tolerance: 20%; Voltage: 25V; Price: 0.71; Device Package: Radial, Can, 10mm
footprint CAP AL TH D10 L5 H30
pins: 1, 2

## EKY-250ETD471MJ16S
designator C?, comment 470uF  (value not drawn)
CAP ALUM 470UF 20% 25V RADIAL; Part Number: EKY-250ETD471MJ16S; Manufacturer: United Chemi-Con; TemperatureRange: -40C ~ 105C; Type: Polar; Ripple Current: 605mA @ 120Hz; Impedance: 60 mOhm; Value: 470uF; PartId: 25012; Supplier 1: Digi-Key; Supplier Part Number 1: 565-4260-3-ND; ComponentLink1Description: Datasheet; ComponentLink1URL: http://www.chemi-con.co.jp/cgi-bin/CAT_DB/SEARCH/cat_db_al.cgi?e=e&j=p&pdfname=ky; ComponentLink2Description: Digi-Key Listing; ComponentLink2URL: https://www.digikey.com/product-detail/en/united-chemi-con/EKY-250ETD471MJ16S/565-4260-3-ND/4001343; Tolerance: 20%; Voltage: 25V; Price: 0.1566; Device Package: Radial, Can, 10mm
footprint CAP AL TH D10 L5 H17.5
pins: 1, 2

## EKY-350ELL102MK25S
designator C?, comment 1000uF  (value not drawn)
CAP ALUM 1000UF 20% 35V RADIAL; Part Number: EKY-350ELL102MK25S; Manufacturer: United Chemi-Con; TemperatureRange: -40C ~ 105C; Type: Polar; Ripple Current: 1.338A @ 120Hz; Impedance: 27 mOhm; Value: 1000uF; PartId: 23557; Supplier 1: Digi-Key; Supplier Part Number 1: 565-1581-ND; ComponentLink1Description: Datasheet; ComponentLink1URL: http://www.chemi-con.co.jp/cgi-bin/CAT_DB/SEARCH/cat_db_al.cgi?e=e&j=p&pdfname=ky; ComponentLink2Description: Digi-Key Listing; ComponentLink2URL: https://www.digikey.com/product-detail/en/united-chemi-con/EKY-350ELL102MK25S/565-1581-ND/756097; Tolerance: 20%; Voltage: 35V; Price: 0.87; Device Package: Radial, Can, 12.5mm
footprint CAP AL TH D12.5 L5 H25
pins: 1, 2

## EKY-350ELL122MK30S
designator C?, comment 1200uF  (value not drawn)
CAP ALUM 1200UF 20% 35V RADIAL; Part Number: EKY-350ELL122MK30S; Manufacturer: United Chemi-Con; TemperatureRange: -40C ~ 105C; Type: Polar; Ripple Current: 1.59A @ 120Hz; Impedance: 24 mOhm; Value: 1200uF; PartId: 24221; Supplier 1: Digi-Key; Supplier Part Number 1: 565-1583-ND; ComponentLink1Description: Datasheet; ComponentLink1URL: http://www.chemi-con.co.jp/cgi-bin/CAT_DB/SEARCH/cat_db_al.cgi?e=e&j=p&pdfname=ky; ComponentLink2Description: Digi-Key Listing; ComponentLink2URL: https://www.digikey.com/product-detail/en/united-chemi-con/EKY-350ELL122MK30S/565-1583-ND/756099; Tolerance: 20%; Voltage: 35V; Price: 0.96; Device Package: Radial, Can, 12.5mm
footprint CAP AL TH D12.5 L5 H35.5
pins: 1, 2

## EKY-350ELL122ML20S
designator C?, comment 1200uF  (value not drawn)
CAP ALUM 1200UF 20% 35V RADIAL; Part Number: EKY-350ELL122ML20S; Manufacturer: United Chemi-Con; TemperatureRange: -40C ~ 105C; Type: Polar; Ripple Current: 1.518A @ 120Hz; Impedance: 27 mOhm; Value: 1200uF; PartId: 26290; Supplier 1: Digi-Key; Supplier Part Number 1: 565-1584-ND; ComponentLink1Description: Datasheet; ComponentLink1URL: http://www.chemi-con.co.jp/cgi-bin/CAT_DB/SEARCH/cat_db_al.cgi?e=e&j=p&pdfname=ky; ComponentLink2Description: Digi-Key Listing; ComponentLink2URL: https://www.digikey.com/product-detail/en/united-chemi-con/EKY-350ELL122ML20S/565-1584-ND/756100; Tolerance: 20%; Voltage: 35V; Price: 1.06; Device Package: Radial, Can, 16mm
footprint CAP AL TH D16 L7.5 H20
pins: 1, 2

## EKY-350ELL152MK35S
designator C?, comment 1500uF  (value not drawn)
CAP ALUM 1500UF 20% 35V RADIAL; Part Number: EKY-350ELL152MK35S; Manufacturer: United Chemi-Con; TemperatureRange: -40C ~ 105C; Type: Polar; Ripple Current: 1.728A @ 120Hz; Impedance: 20 mOhm; Value: 1500uF; PartId: 24216; Supplier 1: Digi-Key; Supplier Part Number 1: 565-1585-ND; ComponentLink1Description: Datasheet; ComponentLink1URL: http://www.chemi-con.co.jp/cgi-bin/CAT_DB/SEARCH/cat_db_al.cgi?e=e&j=p&pdfname=ky; ComponentLink2Description: Digi-Key Listing; ComponentLink2URL: https://www.digikey.com/product-detail/en/united-chemi-con/EKY-350ELL152MK35S/565-1585-ND/756101; Tolerance: 20%; Voltage: 35V; Price: 0.96; Device Package: Radial, Can, 12.5mm
footprint CAP AL TH D12.5 L5 H35.5
pins: 1, 2

## EKY-350ELL182ML25S
designator C?, comment 1800uF  (value not drawn)
CAP ALUM 1800UF 20% 35V RADIAL; Part Number: EKY-350ELL182ML25S; Manufacturer: United Chemi-Con; TemperatureRange: -40C ~ 105C; Type: Polar; Ripple Current: 1.758A @ 120Hz; Impedance: 21 mOhm; Value: 1800uF; PartId: 26576; Supplier 1: Digi-Key; Supplier Part Number 1: 565-1587-ND; ComponentLink1Description: Datasheet; ComponentLink1URL: http://www.chemi-con.co.jp/cgi-bin/CAT_DB/SEARCH/cat_db_al.cgi?e=e&j=p&pdfname=ky; ComponentLink2Description: Digi-Key Listing; ComponentLink2URL: https://www.digikey.com/product-detail/en/united-chemi-con/EKY-350ELL182ML25S/565-1587-ND/756103; Tolerance: 20%; Voltage: 35V; Price: 1.21; Device Package: Radial, Can, 16mm
footprint CAP AL TH D16 L7.5 H26.5
pins: 1, 2

## EKY-350ELL222MLN3S
designator C?, comment 2200uF  (value not drawn)
CAP ALUM 2200UF 20% 35V RADIAL; Part Number: EKY-350ELL222MLN3S; Manufacturer: United Chemi-Con; TemperatureRange: -40C ~ 105C; Type: Polar; Ripple Current: 2.5875A @ 120Hz; Impedance: 17 mOhm; Value: 2200uF; PartId: 27027; Supplier 1: Digi-Key; Supplier Part Number 1: 565-1589-ND; ComponentLink1Description: Datasheet; ComponentLink1URL: http://www.chemi-con.co.jp/cgi-bin/CAT_DB/SEARCH/cat_db_al.cgi?e=e&j=p&pdfname=ky; ComponentLink2Description: Digi-Key Listing; ComponentLink2URL: https://www.digikey.com/product-detail/en/united-chemi-con/EKY-350ELL222MLN3S/565-1589-ND/756105; Tolerance: 20%; Voltage: 35V; Price: 1.49; Device Package: Radial, Can, 16mm
footprint CAP AL TH D16 L7.5 H33.5
pins: 1, 2